# Altium footprint library QUTMS_FuseLibrary.PcbLib: 1 footprints
Each footprint in its own frame and in the unit in brackets; x right, y up, seen from the top. Pads: shape width x height; smd on the part's side, far side on the other; paste and mask are expansions set on the pad; w line width, h text height; cw(c..) or ccw(c..) is an arc to the next point about the centre after c.
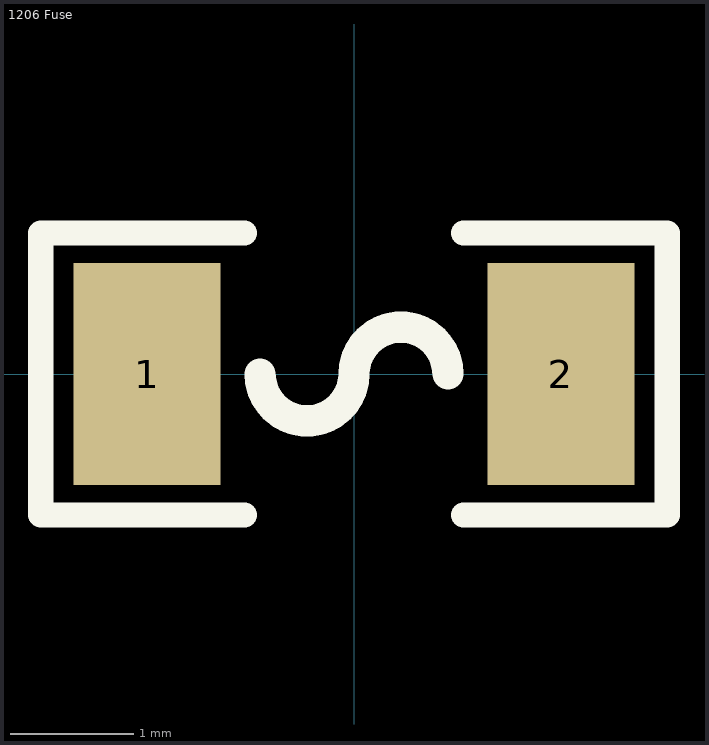
[diagram p0: the footprint, top view; thin cyan lines are the x and y axes]

## 1206 Fuse [mil]
pads (2):
  rect 47x71 smd: 1(-66.08,0) 2(66.08,0)
Top Overlay:
  lines w8: -35,-45 -100,-45 -100,45 -35,45 ; 35,-45 100,-45 100,45 35,45
  lines w10: -30,0 ccw(c-15,0) 0,0 cw(c15,0) 30,0
3D body "0ZCJ0005FF2E.step": height 28.11, standoff 0.24, extent -66.92,-33.46 66.93,33.47